# EAGLE library part MINI_USB_SHIELD (library cnkls_parts)
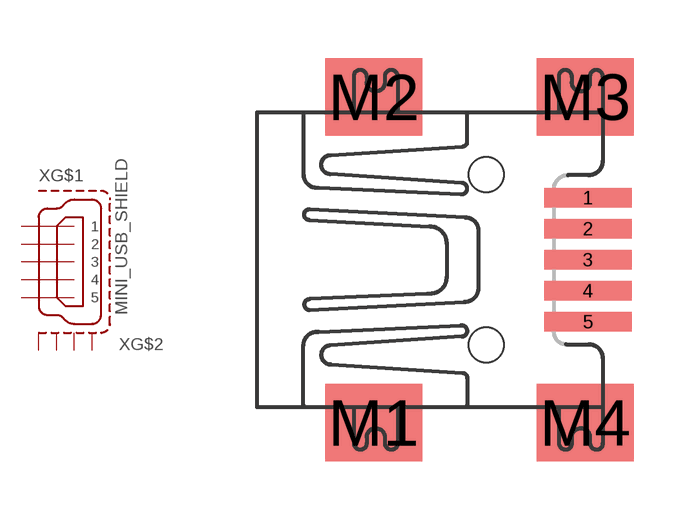
[diagram p1: symbol with the pads of MINI-USB_JACK; footprint MINI-USB_JACK]

Designator prefix X; gates G$1=MINI_USB G$2=USB_SHIELD

## MINI_USB_SHIELD  [MINI-USB_JACK]
1  G$1:1  in
2  G$1:2  in
3  G$1:3  in
4  G$1:4  in
5  G$1:5  in
M1  G$2:S1  pas
M2  G$2:S2  pas
M3  G$2:S3  pas
M4  G$2:S4  pas

## Footprint MINI-USB_JACK (pad centres in mm)
smd 2.25 x 0.5: 1 3.52,1.6; 2 3.52,0.8; 3 3.52,0; 4 3.52,-0.8; 5 3.52,-1.6
smd 2.5 x 2: M1 -2,-4.2; M2 -2,4.2; M3 3.45,4.2; M4 3.45,-4.2
hole 0.9 at 0.9,-2.2
hole 0.9 at 0.9,2.2